# EAGLE library part 691132700008 (library Wurth_Connectors_WR-TBL Wire Protector)
WR-TBL Serie 1327 - 5.00 mm - Vertical Entry with Pressure Clamp divisible KIND PROPERTIES Pitch 5 mm MATERIAL PROPERTIES Insulator Material PC Insulator Flammability Rating UL94 V-0 Insulator Color Grey Contact Material Steel Contact Plating Zinc Terminal Screw Material Steel Terminal Screw Plating Zinc Wire Guard Material Copper Alloy GENERAL INFORMATION Operating Temperature -30 up to +120 °C Compliance Lead free / RoHS ELECTRICAL PROPERTIES IR UL 16 A IR VDE 22 A Working Voltage [UL] 300 V (AC) Working Voltage [VDE] 450 V (AC) Withstanding Voltage [UL] 1600 V (AC) Withstanding Voltage [cULus] 2500 V (AC) Withstanding Voltage [VDE] 2500 V (AC) Contact Resistance [UL] 20 mΩ Contact Resistance [cULus] 20 mΩ Contact Resistance [VDE] 20 mΩ MECHANICAL PROPERTIES Wire Strip Length 6 (mm) Screw M2.5 Solid Wire Section (AWG) 30 to 12 (AWG) Solid Wire Section (Metric) 0.05 to 3.31 (mm²) Stranded Wire Section (AWG) 30 to 12 (AWG) Stranded Wire Section (Metric) 0.05 to 3.31 (mm²) CERTIFICATION cULus Approval E150931 UL Approval E150931 CAT N: CUU VDE Approval 40021359 VDE Approval 40021359 TYPE: CUU PACKAGING PROPERTIES Packaging Box <https://katalog.we-online.com/media/images/v2/o58317v209%20Family_WR-TBL_Screw_PClamp_6911327000xx.jpg> Details see: https://katalog.we-online.com/en/em/TBL_5_00_1327_6911327000XX Updated by Ella Wu 2019-11-08 2019(C) Wurth Elektronik
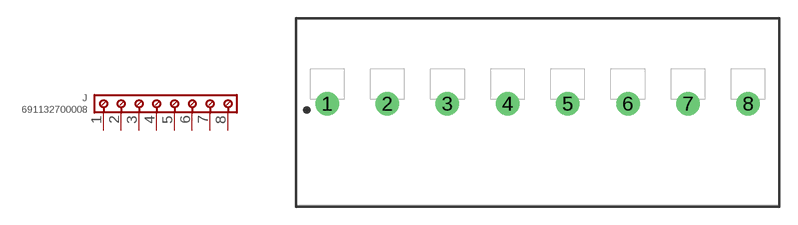
[diagram p25: symbol with the pads of 691132700008; footprint 691132700008]

Designator prefix J

## 691132700008 (DATASHEET-URL: https://www.we-online.com/catalog/datasheet/691132700008.pdf; IR-UL: 16A; IR-VDE: 22A; MOUNT: THT; PART-NUMBER: 691132700008; PINS: 8; PITCH: 5mm; TYPE: Vertical; VALUE: 691132700008; WIRE: 30 to 12 (AWG) 0.05 to 3.31 (mm²); WORKING-VOLTAGE-UL: 300V(AC); WORKING-VOLTAGE-VDE: 450V(AC))  [691132700008]
1  1  pas
2  2  pas
3  3  pas
4  4  pas
5  5  pas
6  6  pas
7  7  pas
8  8  pas

## Footprint 691132700008 (pad centres in mm)
WR-TBL Serie 1327 - 5.00 mm - Vertical Entry with Pressure Clamp divisible Max Height = 10.5mm , Pitch 5mm , 8 Pins
drill 1.3: 1 -17.5,0; 2 -12.5,0; 3 -7.5,0; 4 -2.5,0; 5 2.5,0; 6 7.5,0; 7 12.5,0; 8 17.5,0